# Altium footprint library buck2.PcbLib: 24 footprints (part 1 of 2)
Each footprint in its own frame and in the unit in brackets; x right, y up, seen from the top. Pads: shape width x height; smd on the part's side, far side on the other; paste and mask are expansions set on the pad; w line width, h text height; cw(c..) or ccw(c..) is an arc to the next point about the centre after c.
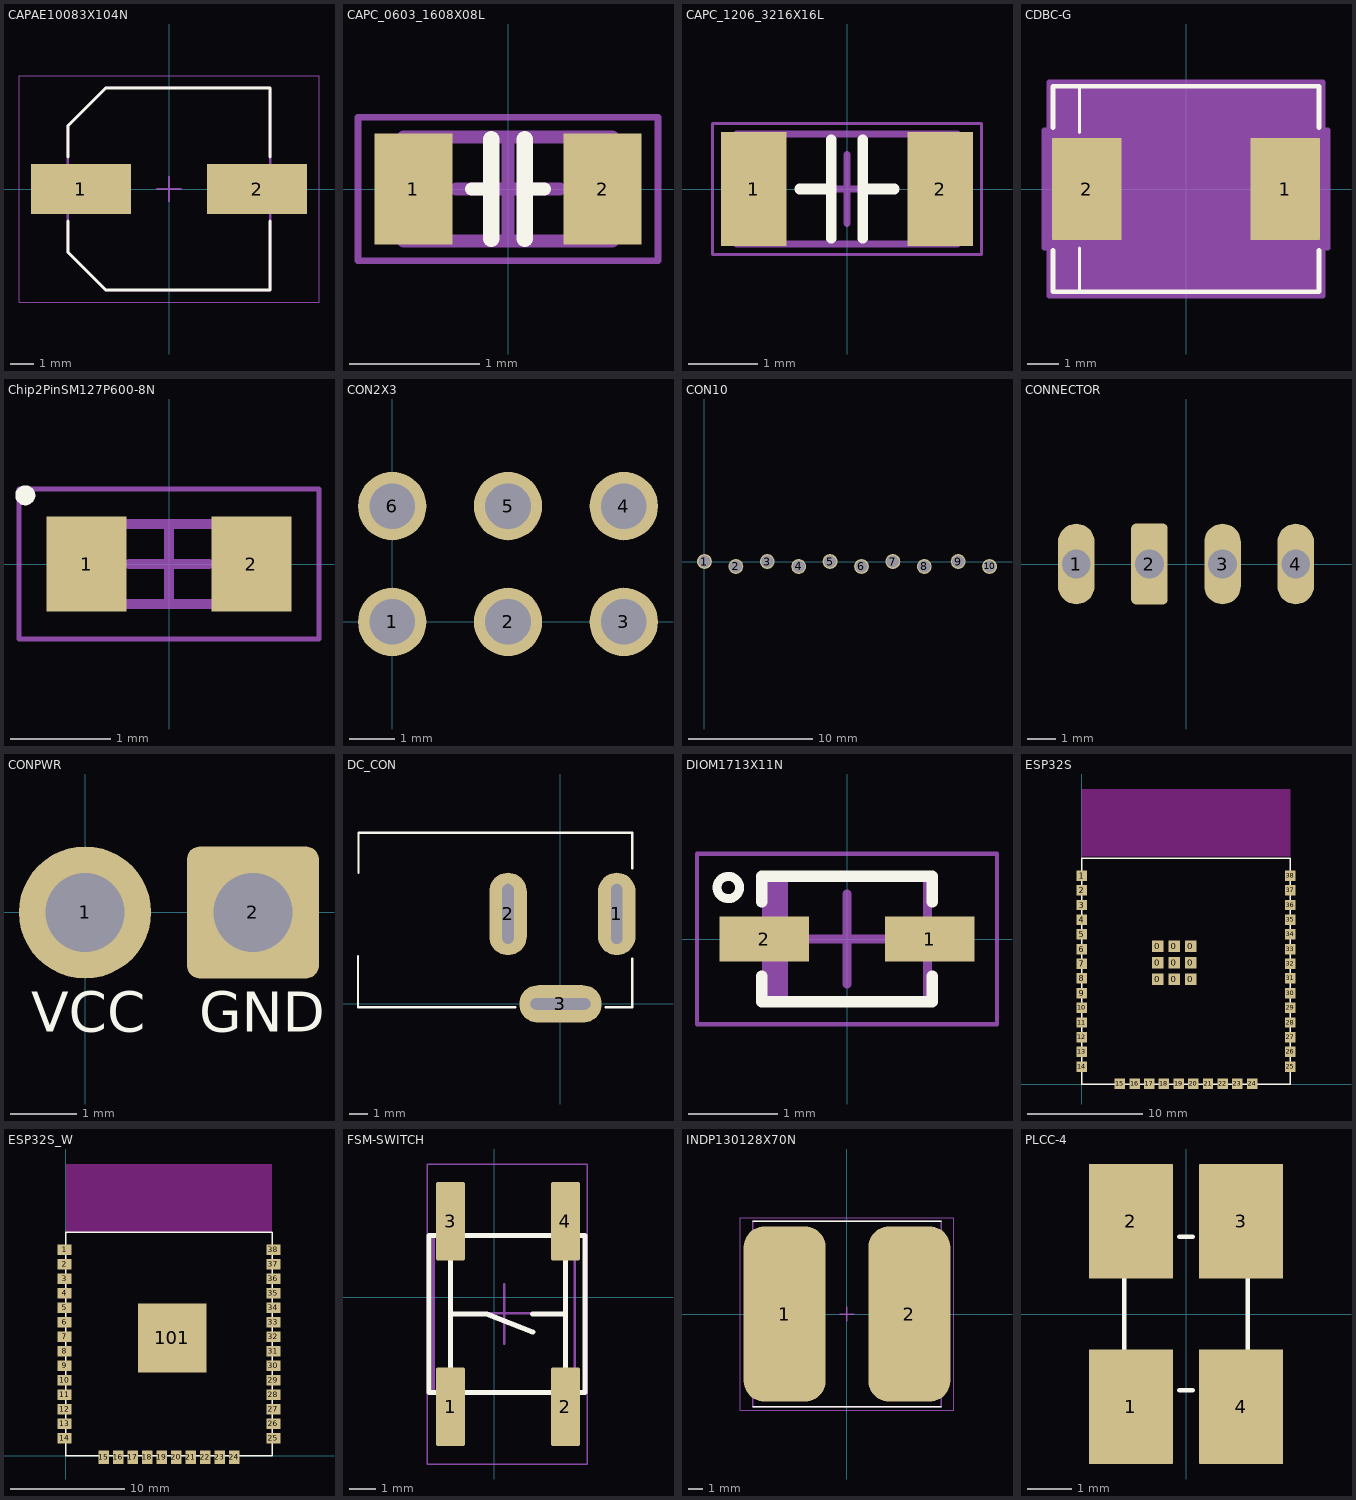
[diagram p0: the footprints below, top view; thin cyan lines are the x and y axes]

## CAPAE10083X104N [mm] "Aluminum Electrolytic Capacitor, Body 8.30x8.30x10.40mm, IPC Medium Density"
height 10.4
pads (2):
  rrect1% 4.2x2.1 smd: 1(-3.7,0) 2(3.7,0)
Top Overlay:
  lines w0.127: -4.25,-1.35 -4.25,-2.65 -2.65,-4.25 4.25,-4.25 4.25,-1.35 ; -4.25,1.35 -4.25,2.65 -2.65,4.25 4.25,4.25 4.25,1.35
Mechanical 13:
  lines w0.1: -4.25,-2.65 -2.65,-4.25 4.25,-4.25 4.25,4.25 -2.65,4.25 -4.25,2.65 -4.25,-2.65
Mechanical 15:
  lines w0.05: -6.3,-4.75 -6.3,4.75 6.3,4.75 6.3,-4.75 -6.3,-4.75
  lines w0.1: -0.5,0 0.5,0 ; 0,-0.5 0,0.5
3D body "CAPAE10083X104N.step": height 10.4, standoff 0, extent -5,-4.25 5,4.25

## CAPC_0603_1608X08L [mm] "Chip Capacitor 0603"
height 0.8
pads (2):
  rrect1% 0.6x0.85 smd: 1(-0.725,0) 2(0.725,0)
Top Overlay:
  lines w0.102: -0.279,0 -0.127,0 ; 0.127,0 0.279,0
  lines w0.127: -0.127,-0.381 -0.127,0.381 ; 0.127,-0.381 0.127,0.381
Mechanical 13:
  lines w0.1: -0.8,-0.4 -0.8,0.4 0.8,0.4 0.8,-0.4 -0.8,-0.4
Mechanical 15:
  lines w0.05: -1.15,-0.55 -1.15,0.55 1.15,0.55 1.15,-0.55 -1.15,-0.55
  lines w0.1: -0.4,0 0.4,0 ; 0,-0.4 0,0.4
3D body "CAPC_0603_1608X08L.step": height 0.8, standoff 0, extent -0.8,-0.4 0.8,0.4

## CAPC_1206_3216X16L [mm] "Chip Capacitor 1206"
height 1.6
pads (2):
  rrect1% 0.95x1.65 smd: 1(-1.35,0) 2(1.35,0)
Top Overlay:
  lines w0.152: -0.686,0 -0.229,0 ; -0.229,-0.711 -0.229,0.711 ; 0.229,-0.711 0.229,0.711 ; 0.229,0 0.686,0
Mechanical 13:
  lines w0.1: -1.6,-0.8 1.6,-0.8 1.6,0.8 -1.6,0.8 -1.6,-0.8
Mechanical 15:
  lines w0.05: -1.95,-0.95 1.95,-0.95 1.95,0.95 -1.95,0.95 -1.95,-0.95
  lines w0.1: -0.5,0 0.5,0 ; 0,-0.5 0,0.5
3D body "CAPC_1206_3216X16L.step": height 1.6, standoff 0, extent -1.6,-0.8 1.6,0.8

## CDBC-G [mil]
pads (2):
  rrect1% 86x126 smd paste+0 mask+0: 1(123,0) 2(-123,0)
Top Overlay:
  lines w4: -132,-127.5 -132,-73 ; -132,70 -132,127.5
  lines w6: -165,-76.1 -165,-127.5 165,-127.5 165,-76.1 ; -165,76.1 -165,127.5 165,127.5 165,76.1
Mechanical 13:
  lines w1: -160,-122.5 160,-122.5 160,122.5 -160,122.5 -160,-122.5
Mechanical 15:
  region: -170,-73 -176,-73 -176,73 -170,73 -170,132.5 170,132.5 170,73 176,73 176,-73 170,-73 170,-132.5 -170,-132.5
  lines w6: -176,-73 -176,73 -170,73 -170,132.5 170,132.5 170,73 176,73 176,-73 170,-73 170,-132.5 -170,-132.5 -170,-73 -176,-73
3D body "CDBC-G.stp": height 105, standoff 0, extent -160,-122.52 160,122.52

## Chip2PinSM127P600-8N [mm] "SMT LED"
height 2
pads (2):
  rrect1% 0.8x0.95 smd: 1(-0.825,0) 2(0.825,0)
Top Overlay:
  circle w0.1: c-1.437,0.687 r0.05
Mechanical 13:
  lines w0.1: -0.8,-0.4 -0.8,0.4 0.8,0.4 0.8,-0.4 -0.8,-0.4
Mechanical 15:
  lines w0.05: -1.5,-0.75 -1.5,0.75 1.5,0.75 1.5,-0.75 -1.5,-0.75
  lines w0.1: -0.4,0 0.4,0 ; 0,-0.4 0,0.4
3D body "scaled.step": height 0.26, standoff 0.01, extent -0.767,-0.379 0.739,0.377

## CON2X3 [mm] "2x3 2.54mm"
pads (6):
  round 1.5 hole 1 paste+0 mask+0: 1(0,0) 2(2.54,0) 3(5.08,0) 4(5.08,2.54) 5(2.54,2.54) 6(0,2.54)

## CON10 [mm]
pads (10):
  round 1.203 hole 1: 1(0,0) 2(2.54,-0.4) 3(5.08,0) 4(7.62,-0.4) 5(10.16,0) 6(12.7,-0.4) 7(15.24,0) 8(17.78,-0.4) 9(20.52,0) 10(23.06,-0.4)

## CONNECTOR [mm]
pads (4):
  rrect100% 1.27x2.8 hole 1 paste+0: 1(-3.81,0) 3(1.27,0) 4(3.81,0)
  rrect25% 1.27x2.8 hole 1 paste+0: 2(-1.27,0)

## CONPWR [mm]
pads (2):
  round 2 hole 1.2 paste+0: 1(0,0)
  rrect20% 2x2 hole 1.2 paste+0: 2(2.54,0)
Top Overlay:
  text "VCC" at -0.813,-1.803 h0.61
  text "GND" at 1.727,-1.803 h0.61

## DC_CON [mm]
pads (3):
  oval 2x4.4 hole 0.6 slot 3.2 at 90 deg paste-2.54: 1(3,4.8) 2(-2.8,4.8)
  oval 4.4x2 hole 0.6 slot 3.2 at 0 deg paste-2.54: 3(0,0)
Top Overlay:
  lines w0.127: -10.8,2.54 -10.8,-0.175 -2.413,-0.175 ; -10.775,6.985 -10.775,9.125 3.825,9.125 3.825,7.239 ; 2.413,-0.175 3.825,-0.175 3.825,2.413
3D body "dc_5525.step": height 11, standoff -4.3, extent -10.74,-0.3 3.88,9.025

## DIOM1713X11N [mm] "Molded Diode, 2-Leads, Body 1.70x1.30mm, IPC Medium Density"
height 1.1
pads (2):
  rect 1x0.5 smd: 1(0.925,0) 2(-0.925,0)
Top Overlay:
  circle w0.1: c-1.325,0.575 r0.125
  lines w0.127: -0.95,-0.413 -0.95,-0.7 0.95,-0.7 0.95,-0.413 ; -0.95,0.413 -0.95,0.7 0.95,0.7 0.95,0.413
Mechanical 13:
  rectangle: -0.9,-0.7 -0.658,0.7
  lines w0.1: -0.9,-0.7 -0.9,0.7 0.9,0.7 0.9,-0.7 -0.9,-0.7
Mechanical 15:
  lines w0.05: -1.675,-0.95 -1.675,0.95 1.675,0.95 1.675,-0.95 -1.675,-0.95
  lines w0.1: -0.5,0 0.5,0 ; 0,-0.5 0,0.5
3D body "DIOM1713X11N.step": height 1.1, standoff 0, extent -1.12,-0.7 1.12,0.7

## ESP32S [mm] "ESP32S-Module"
height 2.8
pads (47):
  rrect1% 1x1 smd paste+0 mask+0: 0(6.567,9.077) 0(6.567,10.51) 0(6.567,11.943) 0(8,9.077) 0(8,10.51) 0(8,11.943) 0(9.433,9.077) 0(9.433,10.51) 0(9.433,11.943)
  rrect1% 0.9x0.9 smd: 1(0,18.034) 2(0,16.764) 3(0,15.494) 4(0,14.224) 5(0,12.954) 6(0,11.684) 7(0,10.414) 8(0,9.144) 9(0,7.874) 10(0,6.604) 11(0,5.334) 12(0,4.064) 13(0,2.794) 14(0,1.524) 15(3.3,0.034) 16(4.57,0.034) 17(5.84,0.034) 18(7.11,0.034) 19(8.38,0.034) 20(9.65,0.034) 21(10.92,0.034) 22(12.19,0.034) 23(13.46,0.034) 24(14.73,0.034) 25(18.034,1.524) 26(18.034,2.794) 27(18.034,4.064) 28(18.034,5.334) 29(18.034,6.604) 30(18.034,7.874) 31(18.034,9.144) 32(18.034,10.414) 33(18.034,11.684) 34(18.034,12.954) 35(18.034,14.224) 36(18.034,15.494) 37(18.034,16.764) 38(18.034,18.034)
Top Overlay:
  lines w0.127: 0,0 18.034,0 18.034,19.558 0,19.558 0,0
Keep-Out Layer:
  rectangle: 0,19.71 18.034,25.527
3D body: height 2, standoff 0.8, extent 0.635,0.635 17.526,19.558
3D body: height 0.8, standoff 0, extent 0,0 18.034,25.527

## ESP32S_W [mm] "Esp32S Module wide for hand soldering"
pads (39):
  rect 1.2x0.9 smd: 1(-0.127,18.034) 2(-0.127,16.764) 3(-0.127,15.494) 4(-0.127,14.224) 5(-0.127,12.954) 6(-0.127,11.684) 7(-0.127,10.414) 8(-0.127,9.144) 9(-0.127,7.874) 10(-0.127,6.604) 11(-0.127,5.334) 12(-0.127,4.064) 13(-0.127,2.794) 14(-0.127,1.524) 25(18.161,1.524) 26(18.161,2.794) 27(18.161,4.064) 28(18.161,5.334) 29(18.161,6.604) 30(18.161,7.874) 31(18.161,9.144) 32(18.161,10.414) 33(18.161,11.684) 34(18.161,12.954) 35(18.161,14.224) 36(18.161,15.494) 37(18.161,16.764) 38(18.161,18.034)
  rect 0.9x1.2 smd: 15(3.302,-0.127) 16(4.57,-0.127) 17(5.84,-0.127) 18(7.11,-0.127) 19(8.38,-0.127) 20(9.65,-0.127) 21(10.92,-0.127) 22(12.19,-0.127) 23(13.46,-0.127) 24(14.73,-0.127)
  rect 6x6 smd: 101(9.3,10.3)
Top Overlay:
  lines w0.127: 0,0 0,19.558 18.034,19.558 18.034,0 0,0
Keep-Out Layer:
  rectangle: 0,19.558 18.034,25.527
3D body: height 2, standoff 0.8, extent 0.635,0.635 17.526,19.558
3D body: height 0.8, standoff 0, extent 0,0 18.034,25.527

## FSM-SWITCH [mm]
pads (4):
  rrect10% 1.1x3 smd: 1(-1.669,-4.185) 2(2.731,-4.185) 3(-1.669,2.915) 4(2.731,2.915)
Top Overlay:
  lines w0.2: 3.48,-3.635 -2.489,-3.635 -2.489,2.365 3.48,2.365
  lines w0.203: -1.669,-3.023 -1.669,1.88 ; -1.669,-0.635 -0.279,-0.635 1.473,-1.321 ; 1.473,-0.635 2.731,-0.635 ; 2.731,-3.023 2.731,1.88 ; 3.48,-3.635 3.48,2.365
Mechanical 15:
  lines w0.1: -2.319,-3.635 3.081,-3.635 3.081,2.365 -2.319,2.365 -2.319,-3.635
  lines w0.102: -0.734,-0.607 0.381,-0.607 ; 0.381,-1.778 0.381,-0.607 ; 0.381,-0.635 0.381,0.508 ; 1.394,-0.607 0.381,-0.607
Mechanical 20:
  lines w0.05: -2.565,-6.375 3.556,-6.375 3.556,5.105 -2.565,5.105 -2.565,-6.375
3D body "switch.stp.step": height 5.07, standoff -0.01, extent -2.492,-5.635 3.508,4.365

## INDP130128X70N [mm] "Precision Wire Wound Inductor, 2-Leads, Body 13.00x12.80mm, IPC Medium Density"
height 7
pads (2):
  rrect50% 5.65x12.1 smd: 1(-4.3,0) 2(4.3,0)
Top Overlay:
  lines w0.102: -6.5,-6.4 6.5,-6.4 ; -6.5,6.4 6.5,6.4
Mechanical 13:
  lines w0.1: -6.5,-6.4 -6.5,6.4 6.5,6.4 6.5,-6.4 -6.5,-6.4
Mechanical 15:
  lines w0.05: -7.375,-6.65 -7.375,6.65 7.375,6.65 7.375,-6.65 -7.375,-6.65
  lines w0.1: -0.5,0 0.5,0 ; 0,-0.5 0,0.5
3D body "INDP130128X70N.step": height 7.1, standoff 0, extent -6.6,-6.4 6.6,6.4

## PLCC-4 [mm] "LED"
pads (4):
  rrect1% 1.9x2.6 smd paste-10 mask-10: 1(-1.25,-2.1) 2(-1.25,2.1) 3(1.25,2.1) 4(1.25,-2.1)
Top Overlay:
  circle w0.5: c-1.803,1.219 r0.1
  lines w0.102: -1.4,-1.725 -1.4,1.775 ; -0.152,-1.727 0.152,-1.727 ; -0.152,1.753 0.152,1.753 ; 1.4,-1.725 1.4,1.775
Top Paste:
  rectangle: -1.143,0.889 -0.381,2.032
  rectangle: 0.381,0.889 1.143,2.032
  rectangle: 0.381,-2.032 1.143,-0.889
  rectangle: -1.143,-2.032 -0.381,-0.889
Top Solder:
  rectangle: -1.2,-2.1 -0.3,-0.8
  rectangle: 0.3,-2.1 1.2,-0.8
  rectangle: 0.3,0.8 1.2,2.1
  rectangle: -1.2,0.8 -0.3,2.1
3D body "CLV1AFKB(????????? RGB).STEP": height 1.9, standoff 0, extent -1.4,-1.725 1.4,1.775